# Altium footprint library FallDetection.PcbLib: 17 footprints (part 1 of 2)
Each footprint in its own frame and in the unit in brackets; x right, y up, seen from the top. Pads: shape width x height; smd on the part's side, far side on the other; paste and mask are expansions set on the pad; w line width, h text height; cw(c..) or ccw(c..) is an arc to the next point about the centre after c.
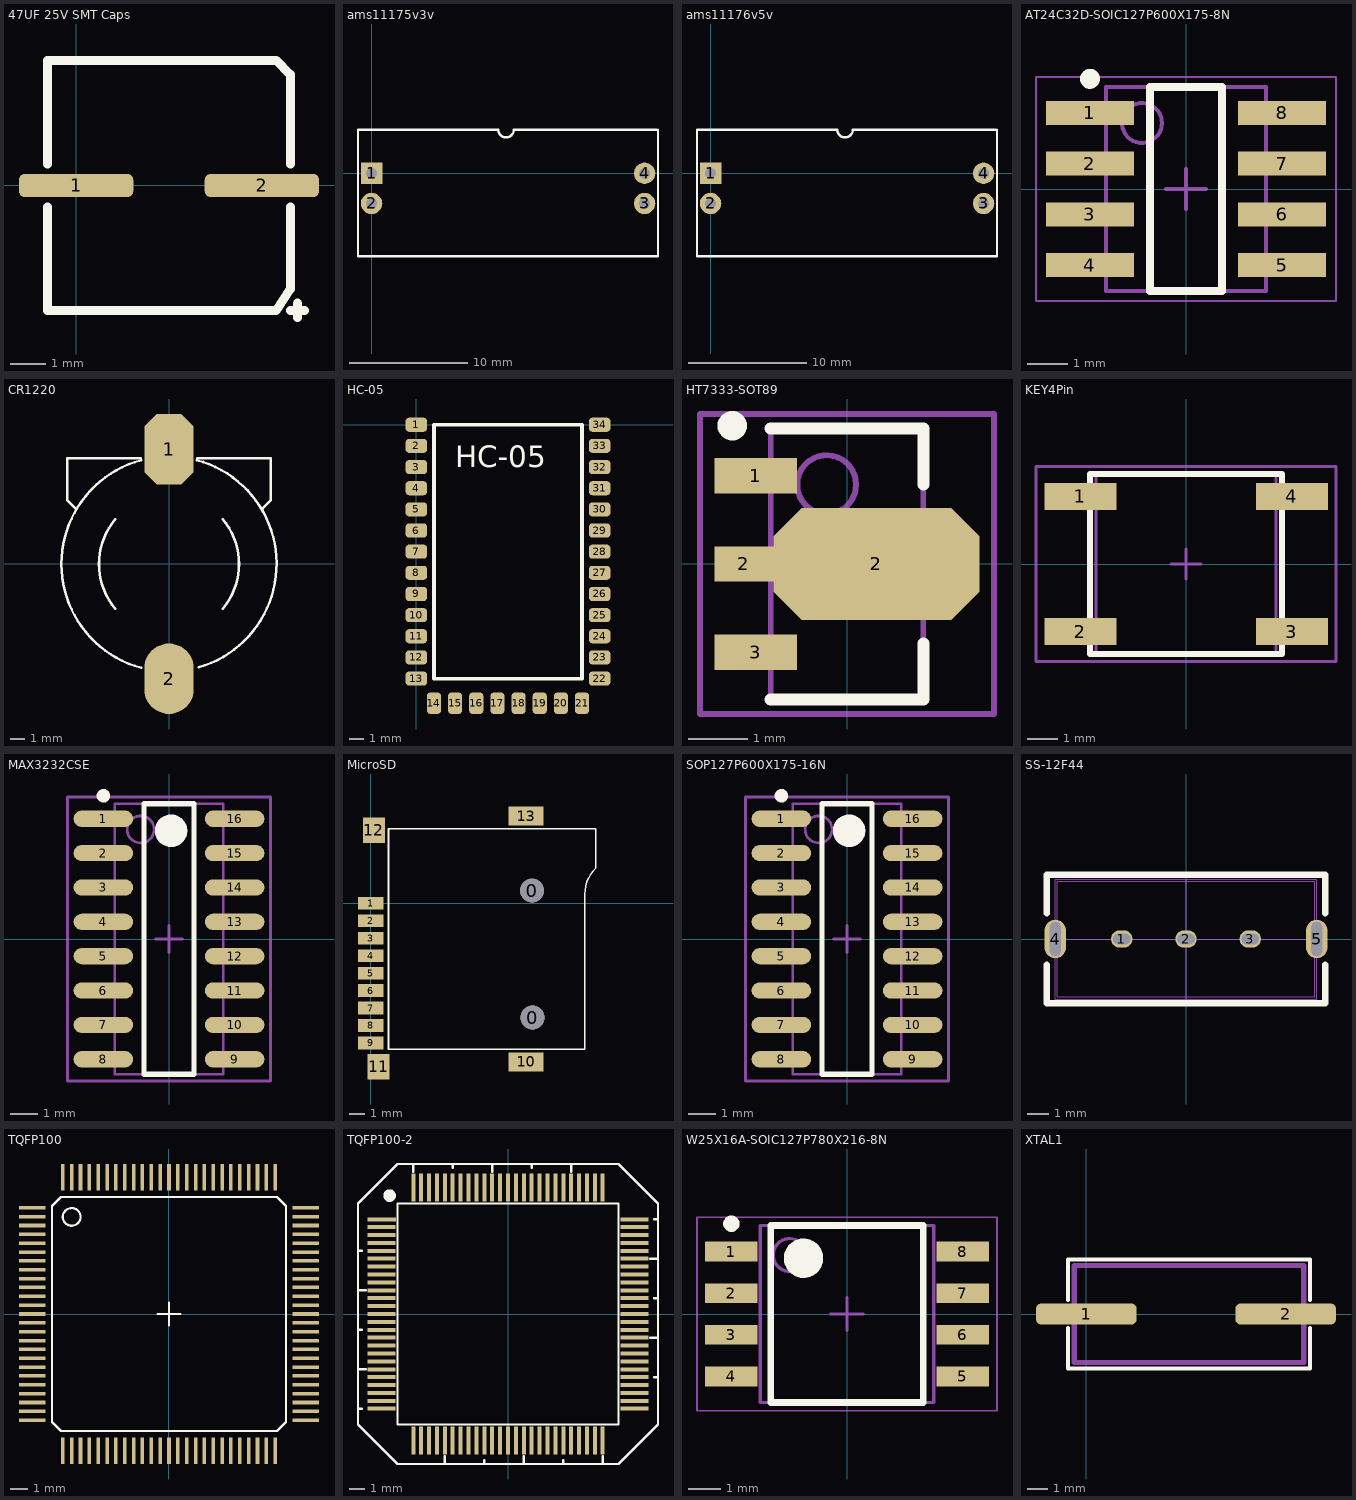
[diagram p0: the footprints below, top view; thin cyan lines are the x and y axes]

## 47UF 25V SMT Caps [mm]
pads (2):
  rrect50% 3.2x0.65 smd: 1(0,0) 2(5.2,0)
Top Overlay:
  lines w0.254: -0.8,-0.6 -0.8,-3.5 5.6,-3.5 6,-2.9 6,-0.6 ; -0.8,0.6 -0.8,3.5 5.6,3.5 6,3.1 6,0.6 ; 6,-3.5 6.2,-3.5 6.4,-3.5 ; 6.2,-3.7 6.2,-3.3

## ams11175v3v [mm] "6vת5v"
pads (4):
  rect 1.8x1.8 hole 0.9: 1(0,0)
  round 1.8 hole 0.9: 2(0,-2.54) 3(23,-2.54) 4(23,0)
Top Overlay:
  lines w0.2: 23.985,3.683 11.99,3.683 cw(c11.329,3.683) 10.668,3.683 9.525,3.683 -1.143,3.683 -1.143,-6.985 24.13,-6.985 24.13,3.683

## ams11176v5v [mm] "6vת5v"
pads (4):
  rect 1.8x1.8 hole 0.9: 1(0,0)
  round 1.8 hole 0.9: 2(0,-2.54) 3(23,-2.54) 4(23,0)
Top Overlay:
  lines w0.2: 23.985,3.683 11.99,3.683 cw(c11.329,3.683) 10.668,3.683 9.525,3.683 -1.143,3.683 -1.143,-6.985 24.13,-6.985 24.13,3.683

## AT24C32D-SOIC127P600X175-8N [mm] "SOIC, 8-Leads, Body 4.92x3.90mm, Pitch 1.27mm, IPC Medium Density"
height 1.75
pads (8):
  rect 2.2x0.6 smd: 1(-2.4,1.905) 2(-2.4,0.635) 3(-2.4,-0.635) 4(-2.4,-1.905) 5(2.4,-1.905) 6(2.4,-0.635) 7(2.4,0.635) 8(2.4,1.905)
Top Overlay:
  circle w0.25: c-2.4,2.755 r0.125
  lines w0.2: -0.9,-2.55 0.9,-2.55 0.9,2.55 -0.9,2.55 -0.9,-2.55
Mechanical 13:
  circle w0.1: c-1.1,1.65 r0.5
  lines w0.1: -2,-2.55 2,-2.55 2,2.55 -2,2.55 -2,-2.55
Mechanical 15:
  lines w0.05: -3.75,-2.8 3.75,-2.8 3.75,2.8 -3.75,2.8 -3.75,-2.8
  lines w0.1: -0.5,0 0.5,0 ; 0,-0.5 0,0.5
3D body: height 1.75, standoff 0.1, extent -2,-2.55 2,2.55

## CR1220 [mm] "CR1220"
height 3
pads (2):
  oct 3.5x5 smd: 1(0,8.1)
  oval 3.5x5 smd: 2(0,-8.156)
Top Overlay:
  lines w0.178: -6.6,3.872 -7.2,4.472 -7.2,7.472 -2,7.472 ; -3.815,3.141 ccw(c0,-0.028) -3.812,-3.2 ; -1.963,-7.391 cw(c0,-0.028) -7.62,-0.028 cw(c0,-0.028) -1.963,7.335 ; 1.963,7.335 cw(c0,-0.028) 2.093,-7.355 ; 2,7.472 7.2,7.472 7.2,4.472 6.625,3.897 ; 3.81,3.147 cw(c0,-0.028) 3.812,-3.2

## HC-05 [mm] "HC-05 board pad information  13mm * 18mm"
height 1
pads (34):
  rrect50% 1.524x1 smd: 1(0,0) 2(0,-1.5) 3(0,-3) 4(0,-4.5) 5(0,-6) 6(0,-7.5) 7(0,-9) 8(0,-10.5) 9(0,-12) 10(0,-13.5) 11(0,-15) 12(0,-16.5) 13(0,-18) 22(13,-18) 23(13,-16.5) 24(13,-15) 25(13,-13.5) 26(13,-12) 27(13,-10.5) 28(13,-9) 29(13,-7.5) 30(13,-6) 31(13,-4.5) 32(13,-3) 33(13,-1.5) 34(13,0)
  rrect50% 1x1.524 smd: 14(1.25,-19.75) 15(2.75,-19.75) 16(4.25,-19.75) 17(5.75,-19.75) 18(7.25,-19.75) 19(8.75,-19.75) 20(10.25,-19.75) 21(11.75,-19.75)
Top Overlay:
  lines w0.254: 1.25,-18 11.75,-18 11.75,0 1.25,0 1.25,-18
  text "HC-05" at 2.75,-3 h1.52

## HT7333-SOT89 [mm] "SOT89, 3-Leads, Body 4.5x2.4mm (max), Pitch 1.50mm, Lead Span 3.5mm, IPC Medium Density"
height 1.6
pads (4):
  rect 1.4x0.6 smd: 1(-1.55,1.499) 3(-1.55,-1.499)
  rect 1x0.6 smd: 2(-1.75,0)
  oct 3.5x1.9 smd: 2(0.5,0)
Top Overlay:
  circle w0.25: c-1.95,2.349 r0.125
  lines w0.2: -1.3,-2.3 1.3,-2.3 1.3,-1.35 ; -1.3,2.3 1.3,2.3 1.3,1.35
Mechanical 13:
  circle w0.1: c-0.345,1.348 r0.5
  lines w0.1: -1.295,-2.299 1.296,-2.299 1.296,2.298 -1.295,2.298 -1.295,-2.299
Mechanical 15:
  lines w0.1: -0.5,0 0.5,0 ; 0,-0.5 0,0.5 ; -2.5,-2.549 2.5,-2.549 2.5,2.548 -2.5,2.548 -2.5,-2.549
3D body: height 1.6, standoff 0, extent -1.295,-2.299 1.296,2.298

## KEY4Pin [mm] "SOP, 4-Leads, Body 6.0x6.0mm (max), Pitch 4.50mm, IPC Medium Density"
height 5
pads (4):
  rect 2.4x0.9 smd: 1(-3.525,2.25) 2(-3.525,-2.25) 3(3.525,-2.25) 4(3.525,2.25)
Top Overlay:
  lines w0.2: -3.2,-3 -3.2,3 3.2,3 3.2,-3 -3.2,-3
Mechanical 13:
  lines w0.1: -3,-3 -3,3 3,3 3,-3 -3,-3
Mechanical 15:
  lines w0.1: -0.5,0 0.5,0 ; 0,-0.5 0,0.5 ; -5,-3.25 -5,3.25 5,3.25 5,-3.25 -5,-3.25
3D body: height 5, standoff 0.1, extent -3,-3 3,3

## MAX3232CSE [mm] "SOP, 16-Leads, Body 10.0x4.0mm (max), Pitch 1.27mm, IPC Medium Density"
height 1.75
pads (16):
  oval 2.2x0.6 smd: 1(-2.425,4.445) 2(-2.425,3.175) 3(-2.425,1.905) 4(-2.425,0.635) 5(-2.425,-0.635) 6(-2.425,-1.905) 7(-2.425,-3.175) 8(-2.425,-4.445) 9(2.425,-4.445) 10(2.425,-3.175) 11(2.425,-1.905) 12(2.425,-0.635) 13(2.425,0.635) 14(2.425,1.905) 15(2.425,3.175) 16(2.425,4.445)
Top Overlay:
  circle w0.25: c-2.425,5.295 r0.125
  circle w0.6: c0.075,4 r0.3
  lines w0.2: -0.925,-5 -0.925,5 0.925,5 0.925,-5 -0.925,-5
Mechanical 13:
  circle w0.1: c-1.05,4.05 r0.5
  lines w0.1: -2,-5 -2,5 2,5 2,-5 -2,-5
Mechanical 15:
  lines w0.1: -0.5,0 0.5,0 ; 0,-0.5 0,0.5 ; -3.75,-5.25 -3.75,5.25 3.75,5.25 3.75,-5.25 -3.75,-5.25
3D body: height 1.75, standoff 0.1, extent -2,-5 2,5

## MicroSD [mm] "very tiny MicroSD CARD"
height 2
pads (15):
  round 1.5 hole 1.5: 0(10.175,0.8) 0(10.2,-7.2)
  rect 1.6x0.8 smd: 1(0,0) 2(0,-1.1) 3(0,-2.2) 4(0,-3.3) 5(0,-4.4) 6(0,-5.5) 7(0,-6.6) 8(0,-7.7) 9(0,-8.8)
  rect 2.2x1.2 smd: 10(9.8,-10) 13(9.8,5.5)
  rect 1.4x1.6 smd: 11(0.5,-10.3) 12(0.2,4.6)
Top Overlay:
  lines w0.1: 1.125,-9.2 1.125,4.7 14.175,4.7 14.175,2.2 ccw(c15.805,0.57) 13.5,0.57 13.5,-9.2 1.125,-9.2

## SOP127P600X175-16N [mm] "SOP, 16-Leads, Body 10.0x4.0mm (max), Pitch 1.27mm, IPC Medium Density"
height 1.75
pads (16):
  oval 2.2x0.6 smd: 1(-2.425,4.445) 2(-2.425,3.175) 3(-2.425,1.905) 4(-2.425,0.635) 5(-2.425,-0.635) 6(-2.425,-1.905) 7(-2.425,-3.175) 8(-2.425,-4.445) 9(2.425,-4.445) 10(2.425,-3.175) 11(2.425,-1.905) 12(2.425,-0.635) 13(2.425,0.635) 14(2.425,1.905) 15(2.425,3.175) 16(2.425,4.445)
Top Overlay:
  circle w0.25: c-2.425,5.295 r0.125
  circle w0.6: c0.075,4 r0.3
  lines w0.2: -0.925,-5 -0.925,5 0.925,5 0.925,-5 -0.925,-5
Mechanical 13:
  circle w0.1: c-1.05,4.05 r0.5
  lines w0.1: -2,-5 -2,5 2,5 2,-5 -2,-5
Mechanical 15:
  lines w0.1: -0.5,0 0.5,0 ; 0,-0.5 0,0.5 ; -3.75,-5.25 -3.75,5.25 3.75,5.25 3.75,-5.25 -3.75,-5.25
3D body: height 1.75, standoff 0.1, extent -2,-5 2,5

## SS-12F44 [mm] "SS-12F44 二挡立式 1P2T SS12F44G5 滑动开关"
height 9
pads (5):
  oval 1x0.8 hole 0.5 slot 0.8 at 0 deg: 1(-3,0) 2(0,0) 3(3,0)
  oval 1x1.8 hole 0.5 slot 1.6 at 90 deg: 4(-6.1,0) 5(6.1,0)
Top Overlay:
  lines w0.3: -6.5,-1.2 -6.5,-3 6.5,-3 6.5,-1.2 ; -6.5,1.2 -6.5,3 6.5,3 6.5,1.2
Mechanical 13:
  lines w0.025: -6,-2.7 -6,2.7 6,2.7 6,-2.7 -6,-2.7
Mechanical 15:
  lines w0.025: 0,-2.8 0,2.8 ; 6.1,0 -6.1,0 ; -6.1,0 -6.1,2.8 6.1,2.8 6.1,-2.8 -6.1,-2.8 -6.1,0

## TQFP100 [mm] "TQFP100"
height 2
pads (100):
  rect 1.5x0.2 smd: 1(-7.725,6) 2(-7.725,5.5) 3(-7.725,5) 4(-7.725,4.5) 5(-7.725,4) 6(-7.725,3.5) 7(-7.725,3) 8(-7.725,2.5) 9(-7.725,2) 10(-7.725,1.5) 11(-7.725,1) 12(-7.725,0.5) 13(-7.725,0) 14(-7.725,-0.5) 15(-7.725,-1) 16(-7.725,-1.5) 17(-7.725,-2) 18(-7.725,-2.5) 19(-7.725,-3) 20(-7.725,-3.5) 21(-7.725,-4) 22(-7.725,-4.5) 23(-7.725,-5) 24(-7.725,-5.5) 25(-7.725,-6) 51(7.725,-6) 52(7.725,-5.5) 53(7.725,-5) 54(7.725,-4.5) 55(7.725,-4) 56(7.725,-3.5) 57(7.725,-3) 58(7.725,-2.5) 59(7.725,-2) 60(7.725,-1.5) 61(7.725,-1) 62(7.725,-0.5) 63(7.725,0) 64(7.725,0.5) 65(7.725,1) 66(7.725,1.5) 67(7.725,2) 68(7.725,2.5) 69(7.725,3) 70(7.725,3.5) 71(7.725,4) 72(7.725,4.5) 73(7.725,5) 74(7.725,5.5) 75(7.725,6)
  rect 0.2x1.5 smd: 26(-6,-7.725) 27(-5.5,-7.725) 28(-5,-7.725) 29(-4.5,-7.725) 30(-4,-7.725) 31(-3.5,-7.725) 32(-3,-7.725) 33(-2.5,-7.725) 34(-2,-7.725) 35(-1.5,-7.725) 36(-1,-7.725) 37(-0.5,-7.725) 38(0,-7.725) 39(0.5,-7.725) 40(1,-7.725) 41(1.5,-7.725) 42(2,-7.725) 43(2.5,-7.725) 44(3,-7.725) 45(3.5,-7.725) 46(4,-7.725) 47(4.5,-7.725) 48(5,-7.725) 49(5.5,-7.725) 50(6,-7.725) 76(6,7.725) 77(5.5,7.725) 78(5,7.725) 79(4.5,7.725) 80(4,7.725) 81(3.5,7.725) 82(3,7.725) 83(2.5,7.725) 84(2,7.725) 85(1.5,7.725) 86(1,7.725) 87(0.5,7.725) 88(0,7.725) 89(-0.5,7.725) 90(-1,7.725) 91(-1.5,7.725) 92(-2,7.725) 93(-2.5,7.725) 94(-3,7.725) 95(-3.5,7.725) 96(-4,7.725) 97(-4.5,7.725) 98(-5,7.725) 99(-5.5,7.725) 100(-6,7.725)
Top Overlay:
  circle w0.127: c-5.499,5.486 r0.5
  lines w0.127: -0.635,0 0.635,0 ; 0,-0.635 0,0.635 ; -6.604,-6.096 -6.096,-6.604 6.096,-6.604 6.604,-6.096 6.604,6.096 6.096,6.604 -6.096,6.604 -6.604,6.096 -6.604,-6.096

## TQFP100-2 [mil] "TQFP100-2"
pads (100):
  rect 70.87x10 smd: 1(-314.96,236.22)
  rect 70x10 smd: 2(-314.96,216.53) 3(-314.96,196.85) 4(-314.96,177.16) 5(-314.96,157.48) 6(-314.96,137.79) 7(-314.96,118.11) 8(-314.96,98.42) 9(-314.96,78.74) 10(-314.96,59.05) 11(-314.96,39.37) 12(-314.96,19.68) 13(-314.96,0) 14(-314.96,-19.68) 15(-314.96,-39.37) 16(-314.96,-59.05) 17(-314.96,-78.74) 18(-314.96,-98.42) 19(-314.96,-118.11) 20(-314.96,-137.79) 21(-314.96,-157.48) 22(-314.96,-177.16) 23(-314.96,-196.85) 24(-314.96,-216.53) 25(-314.96,-236.22) 51(314.96,-236.22) 52(314.96,-216.53) 53(314.96,-196.85) 54(314.96,-177.16) 55(314.96,-157.48) 56(314.96,-137.79) 57(314.96,-118.11) 58(314.96,-98.42) 59(314.96,-78.74) 60(314.96,-59.05) 61(314.96,-39.37) 62(314.96,-19.68) 63(314.96,0) 64(314.96,19.68) 65(314.96,39.37) 66(314.96,59.05) 67(314.96,78.74) 68(314.96,98.42) 69(314.96,118.11) 70(314.96,137.79) 71(314.96,157.48) 72(314.96,177.16) 73(314.96,196.85) 74(314.96,216.53) 75(314.96,236.22)
  rect 10x70 smd: 26(-236.22,-314.96) 27(-216.53,-314.96) 28(-196.85,-314.96) 29(-177.16,-314.96) 30(-157.48,-314.96) 31(-137.79,-314.96) 32(-118.11,-314.96) 33(-98.42,-314.96) 34(-78.74,-314.96) 35(-59.06,-314.96) 36(-39.37,-314.96) 37(-19.68,-314.96) 38(0,-314.96) 39(19.68,-314.96) 40(39.37,-314.96) 41(59.05,-314.96) 42(78.74,-314.96) 43(98.42,-314.96) 44(118.11,-314.96) 45(137.79,-314.96) 46(157.48,-314.96) 47(177.16,-314.96) 48(196.85,-314.96) 49(216.53,-314.96) 50(236.22,-314.96) 76(236.22,314.96) 77(216.53,314.96) 78(196.85,314.96) 79(177.16,314.96) 80(157.48,314.96) 81(137.79,314.96) 82(118.11,314.96) 83(98.42,314.96) 84(78.74,314.96) 85(59.05,314.96) 86(39.37,314.96) 87(19.68,314.96) 88(0,314.96) 89(-19.68,314.96) 90(-39.37,314.96) 91(-59.05,314.96) 92(-78.74,314.96) 93(-98.42,314.96) 94(-118.11,314.96) 95(-137.79,314.96) 96(-157.48,314.96) 97(-177.16,314.96) 98(-196.85,314.96) 99(-216.53,314.96) 100(-236.22,314.96)
Top Overlay:
  circle w15.75: c-295.28,295.28 r7.87
  lines w6: -374.02,-236.22 -364.17,-236.22 ; -374.02,-137.79 -354.33,-137.79 ; -374.02,-39.37 -364.17,-39.37 ; -374.02,59.05 -354.33,59.05 ; -374.02,157.48 -364.17,157.48 ; -236.22,354.33 -236.22,374.02 ; -157.48,-374.02 -157.48,-354.33 ; -137.79,364.17 -137.79,374.02 ; -59.05,-374.02 -59.05,-364.17 ; -39.37,354.33 -39.37,374.02 ; 39.37,-374.02 39.37,-354.33 ; 59.05,364.17 59.05,374.02 ; 137.79,-374.02 137.79,-364.17 ; 157.48,354.33 157.48,374.02 ; 236.22,-374.02 236.22,-354.33 ; 354.33,-59.05 374.02,-59.05 ; 354.33,137.79 374.02,137.79 ; 364.17,-157.48 374.02,-157.48 ; 364.17,39.37 374.02,39.37 ; 364.17,236.22 374.02,236.22 ; -374.02,-275.59 -374.02,275.59 -275.59,374.02 275.59,374.02 374.02,275.59 374.02,-275.59 275.59,-374.02 -275.59,-374.02 -374.02,-275.59 ; -275.59,-275.59 275.59,-275.59 275.59,275.59 -275.59,275.59 -275.59,-275.59

## W25X16A-SOIC127P780X216-8N [mm] "SOIC, 8-Leads, Body 5.25x3.73mm, Pitch 1.27mm, IPC Medium Density"
height 2.16
pads (8):
  rect 1.6x0.6 smd: 1(-3.525,1.905) 2(-3.525,0.635) 3(-3.525,-0.635) 4(-3.525,-1.905) 5(3.525,-1.905) 6(3.525,-0.635) 7(3.525,0.635) 8(3.525,1.905)
Top Overlay:
  circle w0.25: c-3.525,2.755 r0.125
  circle w0.6: c-1.325,1.7 r0.3
  lines w0.2: -2.325,-2.7 -2.325,2.7 2.325,2.7 2.325,-2.7 -2.325,-2.7
Mechanical 13:
  circle w0.1: c-1.75,1.8 r0.5
  lines w0.1: -2.65,-2.7 -2.65,2.7 2.65,2.7 2.65,-2.7 -2.65,-2.7
Mechanical 15:
  lines w0.05: -4.575,-2.95 -4.575,2.95 4.575,2.95 4.575,-2.95 -4.575,-2.95
  lines w0.1: -0.5,0 0.5,0 ; 0,-0.5 0,0.5
3D body: height 2.16, standoff 0.05, extent -2.65,-2.7 2.65,2.7

## XTAL1 [mm] "2 leads XTAL SMT"
height 5
pads (2):
  rrect50% 5x1.05 smd: 1(0,0) 2(9.9,0)
Top Overlay:
  lines w0.2: -0.9,-0.7 -0.9,-2.7 11.1,-2.7 11.1,-0.7 ; -0.9,0.7 -0.9,2.7 11.1,2.7 11.1,0.7
Mechanical 15:
  lines w0.254: -0.6,-2.4 10.8,-2.4 10.8,2.4 -0.6,2.4 -0.6,-2.4